# Altium schematic symbol library Duc.SchLib: 308 symbols (part 2 of 2)
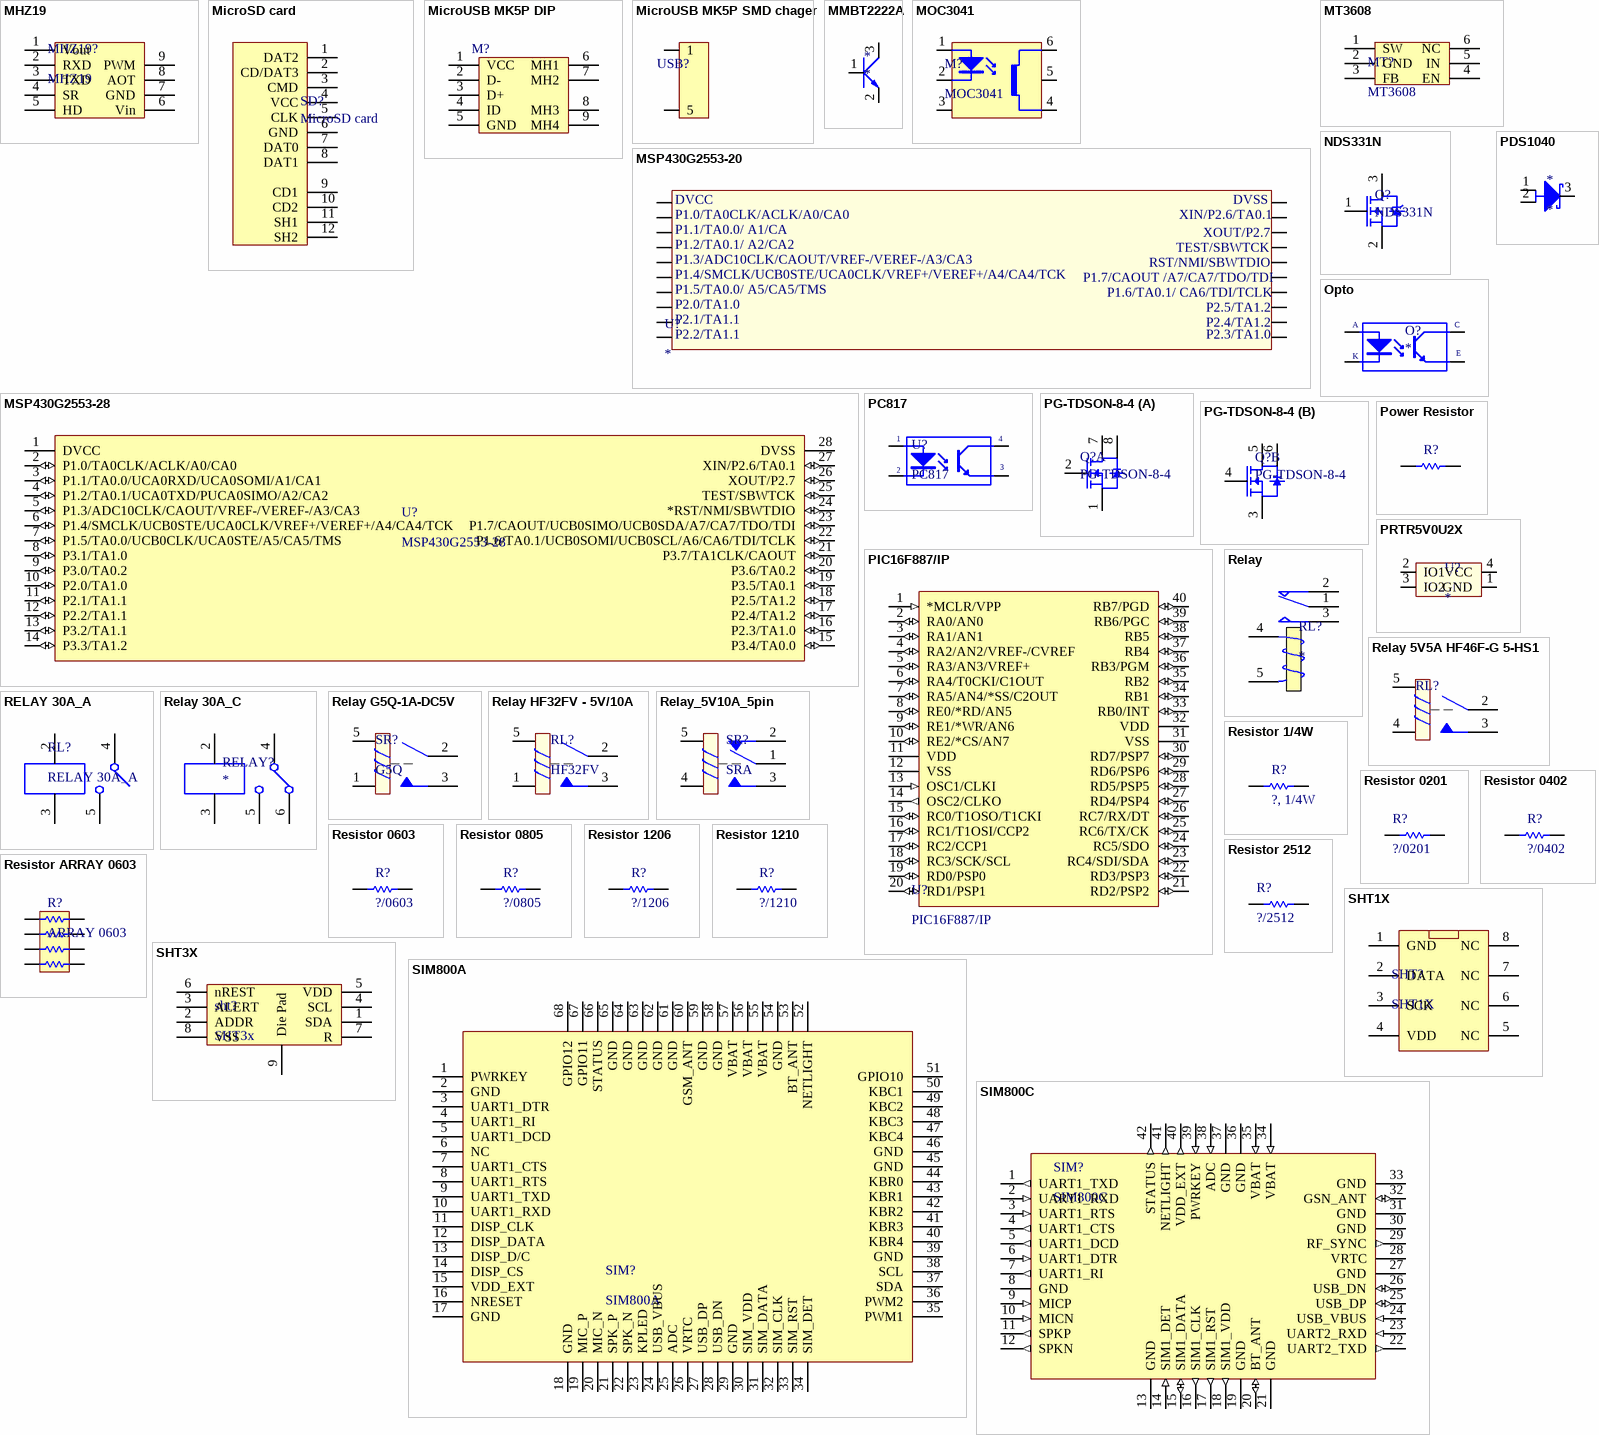
[diagram p9: symbols MHZ19 to SIM800C]

## Resistor 0603
designator R?, comment ?/0603
Resistor 0603
footprint RES 0603(1608) (Resistor 0603)
pins: 1, 2

## Resistor 0805
designator R?, comment ?/0805
Resistor 0805
footprint Res 0805(2012) (Resistor 0805)
pins: 1, 2

## Resistor 1206
designator R?, comment ?/1206
Resistor 1206
footprint RES 1206(3216) (Resistor 1206)
pins: 1, 2

## Resistor 1210
designator R?, comment ?/1210
Resistor 1210
footprint RES 1210(3225) (Resistor 1210)
pins: 1, 2

## Resistor 2512
designator R?, comment ?/2512
Resistor 2512
footprint RES 2512(6332)
pins: 1, 2

## Resistor ARRAY 0603
designator R?, comment ARRAY 0603
Resistor ARRAY 0603
footprint RES Array 0603 (SMD, 0603(4 res))
pins: 1, 2, 3, 4, 5, 6, 7, 8

## SHT1X
designator SHT?
Sensor SHT10
footprint SHT1X (SMD)
footprint SHT1X BOT (SENSOR HUMIDITY AND TEMPERATURE)
pins: 1 GND, 2 DATA, 3 SCK, 4 VDD, 5 NC, 6 NC, 7 NC, 8 NC

## SHT3X
designator sht?, comment SHT3x
SHT3x - DIS Humidity and Temperature
footprint SHT3X
pins: 1 SDA, 2 ADDR, 3 ALERT, 4 SCL, 5 VDD, 6 nREST, 7 R, 8 VSS, 9 Die Pad

## SIM800A
designator SIM?
footprint SIM800A (SIM800A, SMD)
pins: 1 PWRKEY, 2 GND, 3 UART1_DTR, 4 UART1_RI, 5 UART1_DCD, 6 NC, 7 UART1_CTS, 8 UART1_RTS, 9 UART1_TXD, 10 UART1_RXD, 11 DISP_CLK, 12 DISP_DATA, 13 DISP_D/C, 14 DISP_CS, 15 VDD_EXT, 16 NRESET, 17 GND, 18 GND, 19 MIC_P, 20 MIC_N, 21 SPK_P, 22 SPK_N, 23 KPLED, 24 USB_VBUS, 25 ADC, 26 VRTC, 27 USB_DP, 28 USB_DN, 29 GND, 30 SIM_VDD, 31 SIM_DATA, 32 SIM_CLK, 33 SIM_RST, 34 SIM_DET, 35 PWM1, 36 PWM2, 37 SDA, 38 SCL, 39 GND, 40 KBR4, 41 KBR3, 42 KBR2, 43 KBR1, 44 KBR0, 45 GND, 46 GND, 47 KBC4, 48 KBC3, 49 KBC2, 50 KBC1, 51 GPIO10, 52 NETLIGHT, 53 BT_ANT, 54 GND, 55 VBAT, 56 VBAT, 57 VBAT, 58 GND, 59 GND, 60 GSM_ANT, 61 GND, 62 GND, 63 GND, 64 GND, 65 GND, 66 STATUS, 67 GPIO11, 68 GPIO12

## SIM800C
designator SIM?
footprint SIM800C
pins: 1 UART1_TXD (out), 2 UART1_RXD (in), 3 UART1_RTS (in), 4 UART1_CTS (out), 5 UART1_DCD (out), 6 UART1_DTR (in), 7 UART1_RI (out), 8 GND (power), 9 MICP (in), 10 MICN (in), 11 SPKP (out), 12 SPKN (out), 13 GND (power), 14 SIM1_DET (in), 15 SIM1_DATA (io), 16 SIM1_CLK (out), 17 SIM1_RST (out), 18 SIM1_VDD (out), 19 GND (power), 20 BT_ANT (io), 21 GND (power), 22 UART2_TXD (out), 23 UART2_RXD (in), 24 USB_VBUS (in), 25 USB_DP (io), 26 USB_DN (io), 27 GND (power), 28 VRTC, 29 RF_SYNC (out), 30 GND (power), 31 GND (power), 32 GSN_ANT (io), 33 GND (power), 34 VBAT (in), 35 VBAT (in), 36 GND (power), 37 GND (power), 38 ADC (in), 39 PWRKEY (in), 40 VDD_EXT (out), 41 NETLIGHT (out), 42 STATUS (out)

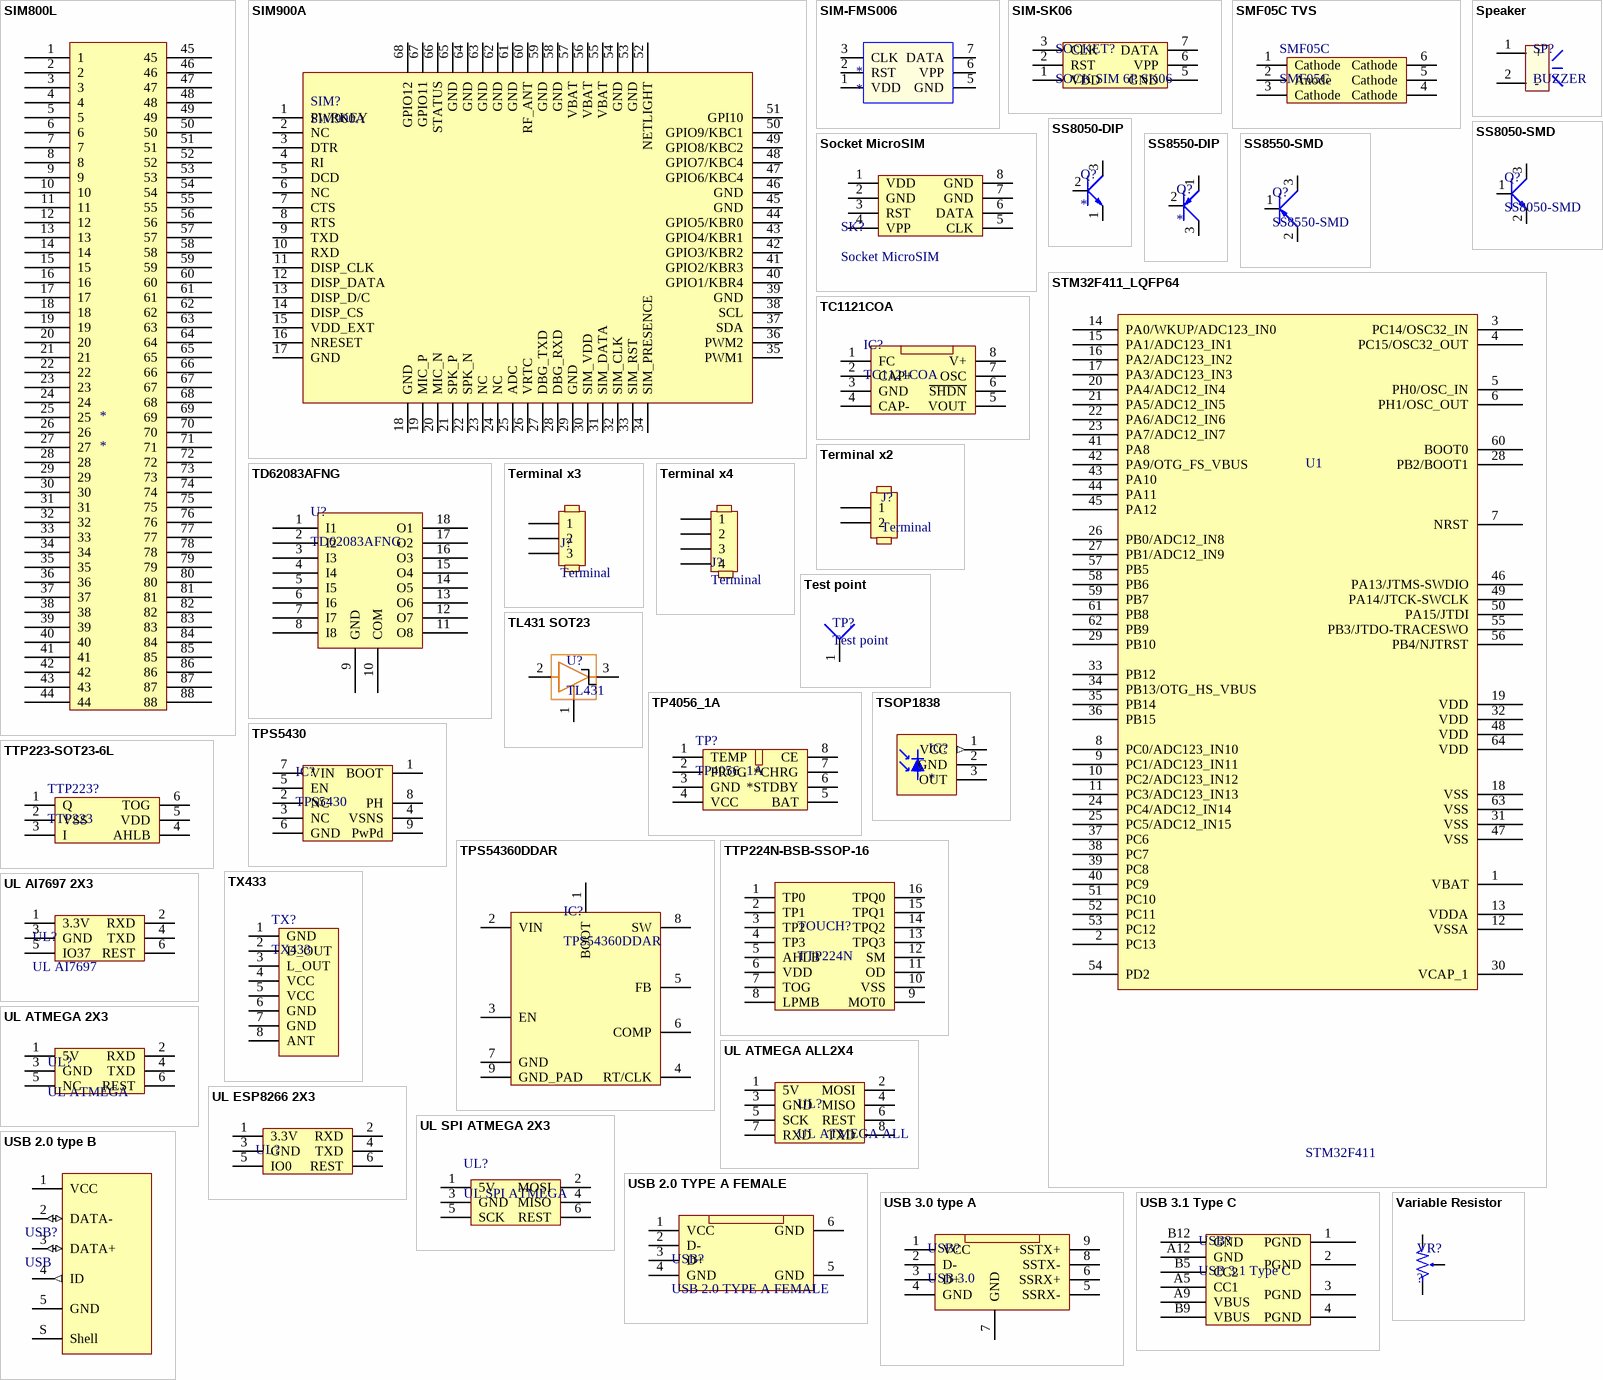
[diagram p7: symbols SIM800L to Variable Resistor]

## SIM800L
designator *
pins: 1, 2, 3, 4, 5, 6, 7, 8, 9, 10, 11, 12, 13, 14, 15, 16, 17, 18, 19, 20, 21, 22, 23, 24, 25, 26, 27, 28, 29, 30, 31, 32, 33, 34, 35, 36, 37, 38, 39, 40, 41, 42, 43, 44, 45, 46, 47, 48, 49, 50, 51, 52, 53, 54, 55, 56, 57, 58, 59, 60, 61, 62, 63, 64, 65, 66, 67, 68, 69, 70, 71, 72, 73, 74, 75, 76, 77, 78, 79, 80, 81, 82, 83, 84, 85, 86, 87, 88

## SIM900A
designator SIM?
footprint SIM900A (SIM900A_SMD)
pins: 1 PWRKEY, 2 NC, 3 DTR, 4 RI, 5 DCD, 6 NC, 7 CTS, 8 RTS, 9 TXD, 10 RXD, 11 DISP_CLK, 12 DISP_DATA, 13 DISP_D/C, 14 DISP_CS, 15 VDD_EXT, 16 NRESET, 17 GND, 18 GND, 19 MIC_P, 20 MIC_N, 21 SPK_P, 22 SPK_N, 23 NC, 24 NC, 25 ADC, 26 VRTC, 27 DBG_TXD, 28 DBG_RXD, 29 GND, 30 SIM_VDD, 31 SIM_DATA, 32 SIM_CLK, 33 SIM_RST, 34 SIM_PRESENCE, 35 PWM1, 36 PWM2, 37 SDA, 38 SCL, 39 GND, 40 GPIO1/KBR4, 41 GPIO2/KBR3, 42 GPIO3/KBR2, 43 GPIO4/KBR1, 44 GPIO5/KBR0, 45 GND, 46 GND, 47 GPIO6/KBC4, 48 GPIO7/KBC4, 49 GPIO8/KBC2, 50 GPIO9/KBC1, 51 GPI10, 52 NETLIGHT, 53 GND, 54 GND, 55 VBAT, 56 VBAT, 57 VBAT, 58 GND, 59 GND, 60 RF_ANT, 61 GND, 62 GND, 63 GND, 64 GND, 65 GND, 66 STATUS, 67 GPIO11, 68 GPIO12
1 alternate drawing of the same symbol

## SIM-FMS006
designator *
footprint SIM-FMS006-2620-0 (KHE SIM)
pins: 1 VDD, 2 RST, 3 CLK, 5 GND, 6 VPP, 7 DATA

## SIM-SK06
designator SOCKET?, comment SOCK SIM 6P SK06
footprint Socket SIM6P
pins: 1 VDD, 2 RST, 3 CLK, 5 GND, 6 VPP, 7 DATA

## SMF05C TVS
designator SMF05C, comment SMF05C
SMF05C SOT363 TVS DIODE ESD PROTECTION
footprint SMF05C (SMF05C SOT363)
pins: 1 Cathode, 2 Anode, 3 Cathode, 4 Cathode, 5 Cathode, 6 Cathode

## Socket MicroSIM
designator SK?
footprint Socket MicroSIM 6P
pins: 1 VDD, 2 GND, 3 RST, 4 VPP, 5 CLK, 6 DATA, 7 GND, 8 GND

## Speaker
designator SP?, comment BUZZER
Buzzer through hole (3V3/5V/12V)
footprint Speaker (TMB12A05)
footprint Buzzer 5V 9x1.2mm
pins: 1 +, 2 -

## SS8050-DIP
designator Q?
NPN transistor through hole
footprint SS8050DIP (NPN BJT)
pins: 1 E, 2 B, 3 C

## SS8050-SMD
designator Q?
NPN transistor SMD
footprint SS8050SMD (NPN)
pins: 1 B, 2 E, 3 C

## SS8550-DIP
designator Q?
PNP transistor through hole
footprint SS8550DIP (PNP BJT)
pins: 1 E, 2 B, 3 C

## SS8550-SMD
designator Q?
PNP transistor SMD
footprint SS8550SMD (PNP)
pins: 1 B, 2 E, 3 C

## STM32F411_LQFP64
designator U1, comment STM32F411
STM32F411_LQFP64
footprint STM-LQFP64_L (Thin QFP, 64-Leads, Body 10x10mm, Pitch 0.5mm, IPC High Density)
pins: 1 VBAT, 2 PC13, 3 PC14/OSC32_IN, 4 PC15/OSC32_OUT, 5 PH0/OSC_IN, 6 PH1/OSC_OUT, 7 NRST, 8 PC0/ADC123_IN10, 9 PC1/ADC123_IN11, 10 PC2/ADC123_IN12, 11 PC3/ADC123_IN13, 12 VSSA, 13 VDDA, 14 PA0/WKUP/ADC123_IN0, 15 PA1/ADC123_IN1, 16 PA2/ADC123_IN2, 17 PA3/ADC123_IN3, 18 VSS, 19 VDD, 20 PA4/ADC12_IN4, 21 PA5/ADC12_IN5, 22 PA6/ADC12_IN6, 23 PA7/ADC12_IN7, 24 PC4/ADC12_IN14, 25 PC5/ADC12_IN15, 26 PB0/ADC12_IN8, 27 PB1/ADC12_IN9, 28 PB2/BOOT1, 29 PB10, 30 VCAP_1, 31 VSS, 32 VDD, 33 PB12, 34 PB13/OTG_HS_VBUS, 35 PB14, 36 PB15, 37 PC6, 38 PC7, 39 PC8, 40 PC9, 41 PA8, 42 PA9/OTG_FS_VBUS, 43 PA10, 44 PA11, 45 PA12, 46 PA13/JTMS-SWDIO, 47 VSS, 48 VDD, 49 PA14/JTCK-SWCLK, 50 PA15/JTDI, 51 PC10, 52 PC11, 53 PC12, 54 PD2, 55 PB3/JTDO-TRACESWO, 56 PB4/NJTRST, 57 PB5, 58 PB6, 59 PB7, 60 BOOT0, 61 PB8, 62 PB9, 63 VSS, 64 VDD

## TC1121COA
designator IC?
footprint TC1121COA (SMD, 8PIN-SOIC)
pins: 1 FC, 2 CAP+, 3 GND, 4 CAP-, 5 VOUT, 6 ~{SHDN}, 7 OSC, 8 V+

## TD62083AFNG
designator U?
footprint TD62083AFNG (SSOP 18 - P - 225 - 0.65)
pins: 1 I1, 2 I2, 3 I3, 4 I4, 5 I5, 6 I6, 7 I7, 8 I8, 9 GND, 10 COM, 11 O8, 12 O7, 13 O6, 14 O5, 15 O4, 16 O3, 17 O2, 18 O1

## Terminal x2
designator J?, comment Terminal
Terminal x2
footprint Terminal x2 5mm (KF301 - 3P)
footprint Terminal x2 3.5mm
footprint Terminal HB9500 2P
pins: 1, 2

## Terminal x3
designator J?, comment Terminal
Terminal x3
footprint Terminal x3 5mm (KF301 - 3P)
footprint Terminal x3 BIG (HB900 - 3P, 9.5mm)
pins: 1, 2, 3

## Terminal x4
designator J?, comment Terminal
footprint Terminal x4
pins: 1, 2, 3, 4

## Test point
designator TP?
footprint Test_point_VIA06 (Test point do not mount)
pins: 1

## TL431 SOT23
designator U?, comment TL431
TL431 SOT23
footprint TL431 SOT23 (TL431 SOT23, ic ?n áp)
pins: 1, 2, 3

## TP4056_1A
designator TP?
footprint TP4056 (TP4056, SMD, 1A, SOP8.)
pins: 1 TEMP, 2 PROG, 3 GND, 4 VCC, 5 BAT, 6 *STDBY, 7 *CHRG, 8 CE

## TPS5430
designator IC?
footprint TPS5430
pins: 1 BOOT, 2 NC, 3 NC, 4 VSNS, 5 EN, 6 GND, 7 VIN, 8 PH, 9 PwPd

## TPS54360DDAR
designator IC?
footprint TPS54360 (DC - DC, INPUT: 4.5-60v, OUTPUT: 0.8-58.8v. 3A)
pins: 1 BOOT, 2 VIN, 3 EN, 4 RT/CLK, 5 FB, 6 COMP, 7 GND, 8 SW, 9 GND_PAD

## TSOP1838
designator IC?
footprint TSOP1838
pins: 1 VCC (out), 2 GND (power), 3 OUT (power)

## TTP223-SOT23-6L
designator TTP223?, comment TTP223
TTP223-SOT23-6L
footprint TTP223 (SOT-23-6L, SMD)
pins: 1 Q, 2 VSS, 3 I, 4 AHLB, 5 VDD, 6 TOG

## TTP224N-BSB-SSOP-16
designator TOUCH?, comment TTP224N
TTP224N-BSB-SSOP-16
footprint TTP224N-BSB (SMD 16 PIN, TON TOUCH)
pins: 1 TP0, 2 TP1, 3 TP2, 4 TP3, 5 AHLB, 6 VDD, 7 TOG, 8 LPMB, 9 MOT0, 10 VSS, 11 OD, 12 SM, 13 TPQ3, 14 TPQ2, 15 TPQ1, 16 TPQ0

## TX433
designator TX?
footprint TX433 (THOUGHT)
pins: 1 GND, 2 D_OUT, 3 L_OUT, 4 VCC, 5 VCC, 6 GND, 7 GND, 8 ANT

## UL AI7697 2X3
designator UL?, comment UL AI7697
UL AI7697 2X3
footprint HEADER 2X3 (UL Female) (UP LOAD)
footprint HEADER 2X3 1.27MM
pins: 1 3.3V, 2 RXD, 3 GND, 4 TXD, 5 IO37, 6 REST

## UL ATMEGA 2X3
designator UL?, comment UL ATMEGA
UL ATMEGA 2X3
footprint HEADER 2X3 (UL Female) (UP LOAD)
pins: 1 5V, 2 RXD, 3 GND, 4 TXD, 5 NC, 6 REST

## UL ATMEGA ALL2X4
designator UL?, comment UL ATMEGA ALL
UL ATMEGA ALL2X4
footprint HEADER 2X4 (UL FEMALE)
footprint HEADER 2X4 1.27 SMD (1.27MM SMT PIN HEADER CONNECTOR)
footprint HEADER 2X4 (UL MALE) (Header 2x4 Test PCB)
pins: 1 5V, 2 MOSI, 3 GND, 4 MISO, 5 SCK, 6 REST, 7 RXD, 8 TXD

## UL ESP8266 2X3
designator UL?, comment UL ESP  (value not drawn)
UL ESP8266 2X3
footprint HEADER 2X3 (UL Female) (UP LOAD)
footprint HEADER 2X3 1.27MM
pins: 1 3.3V, 2 RXD, 3 GND, 4 TXD, 5 IO0, 6 REST

## UL SPI ATMEGA 2X3
designator UL?, comment UL SPI ATMEGA
UL SPI ATMEGA 2X3
footprint HEADER 2X3 (UL Female) (UP LOAD)
pins: 1 5V, 2 MOSI, 3 GND, 4 MISO, 5 SCK, 6 REST

## USB 2.0 TYPE A FEMALE
designator USB?
footprint USB A FEMALE SMD (USB A FEMALE SMD, 4 PIN)
footprint USB A 2.0 F 180 (thought, USB A 2.0)
footprint USB A 2.0 MALE
pins: 1 VCC, 2 D-, 3 D+, 4 GND, 5 GND, 6 GND

## USB 2.0 type B
designator USB?, comment USB
USB 2.0 type B
footprint MicroUSB 180Degrees (thought, Micro USB 180 Degrees)
pins: 1 VCC (power), 2 DATA- (io), 3 DATA+ (io), 4 ID (out), 5 GND (power), S Shell (power)

## USB 3.0 type A
designator USB?, comment USB 3.0
USB 3.0 type A
footprint USB 3.0 F A (USB 3.0, THOUGH, Female, Type A)
pins: 1 VCC, 2 D-, 3 D+, 4 GND, 5 SSRX-, 6 SSRX+, 7 GND, 8 SSTX-, 9 SSTX+

## USB 3.1 Type C
designator USB?
footprint USB Type C FEMALE 6Pin (USB TYPE C 6PIN)
pins: 1 PGND, 2 PGND, 3 PGND, 4 PGND, A5 CC1, A9 VBUS, A12 GND, B5 CC2, B9 VBUS, B12 GND

## Variable Resistor
designator VR?, comment ?
WH148
footprint VResistor (WH148)
footprint Trimmer 3262 (3262 trimmer)
pins: 1, 2, 3

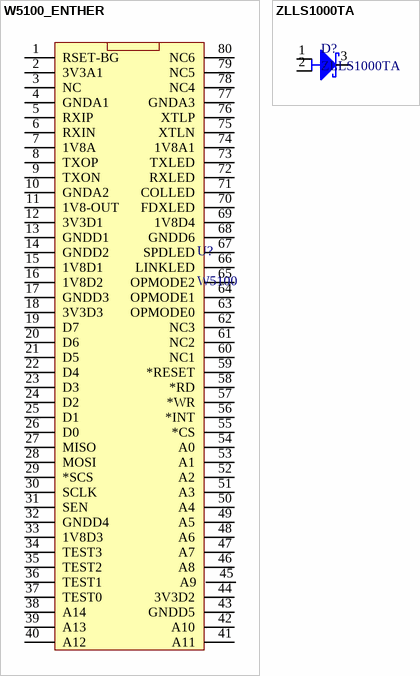
[diagram p8: symbols W5100_ENTHER to ZLLS1000TA]

## W5100_ENTHER
designator U?, comment W5100
footprint W5100 (SMD, enthernet. WIZnet)
pins: 1 RSET-BG, 2 3V3A1, 3 NC, 4 GNDA1, 5 RXIP, 6 RXIN, 7 1V8A, 8 TXOP, 9 TXON, 10 GNDA2, 11 1V8-OUT, 12 3V3D1, 13 GNDD1, 14 GNDD2, 15 1V8D1, 16 1V8D2, 17 GNDD3, 18 3V3D3, 19 D7, 20 D6, 21 D5, 22 D4, 23 D3, 24 D2, 25 D1, 26 D0, 27 MISO, 28 MOSI, 29 *SCS, 30 SCLK, 31 SEN, 32 GNDD4, 33 1V8D3, 34 TEST3, 35 TEST2, 36 TEST1, 37 TEST0, 38 A14, 39 A13, 40 A12, 41 A11, 42 A10, 43 GNDD5, 44 3V3D2, 45 A9, 46 A8, 47 A7, 48 A6, 49 A5, 50 A4, 51 A3, 52 A2, 53 A1, 54 A0, 55 *CS, 56 *INT, 57 *WR, 58 *RD, 59 *RESET, 60 NC1, 61 NC2, 62 NC3, 63 OPMODE0, 64 OPMODE1, 65 OPMODE2, 66 LINKLED, 67 SPDLED, 68 GNDD6, 69 1V8D4, 70 FDXLED, 71 COLLED, 72 RXLED, 73 TXLED, 74 1V8A1, 75 XTLN, 76 XTLP, 77 GNDA3, 78 NC4, 79 NC5, 80 NC6

## ZLLS1000TA
designator D?
footprint ZLLS1000 (40V HIGH CURRENT LOW LEAKAGE SCHOTTKY DIODE)
pins: 1, 2, 3